# Altium schematic symbol library USB.SchLib: 2 symbols
Pins are listed as number, name and electrical type; pins without a type are passive.

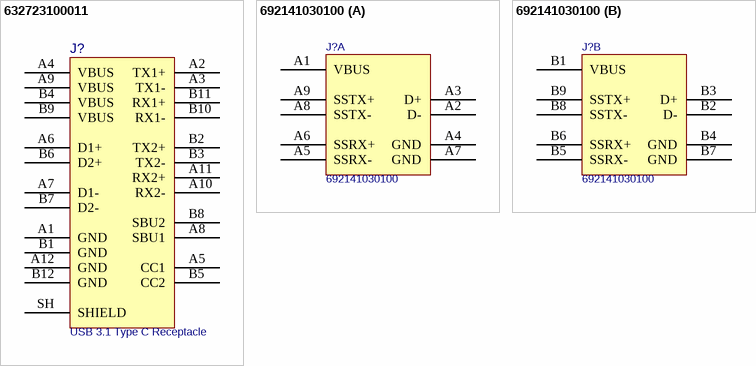
[diagram p0: symbols 632723100011 to 692141030100]

## 632723100011
designator J?, comment USB 3.1 Type C Receptacle
USB 3.1 Type C, Receptacle, Horizontal, THR; Manufacturer: Wurth Elektronik; Manufacturer Part Number: 632723100011; Rated Current: 5A; Pin Number: 24; Interface Type: Type C; Working Voltage: 20VAC; ComponentLink1Description: Manufacturer; ComponentLink1URL: http://www.we-online.de; ComponentLink2Description: Datasheet; ComponentLink2URL: https://katalog.we-online.com/em/datasheet/632723100011.pdf; Published Date: August 2020; Gender: Receptacle; Type: Horizontal; Packaging: Tape and Reel; Operating Temperature: -40 to +105degC; Mounting Technology: THR; Application: USB 3.1
footprint WURTH 632723100011
pins: A1 GND, A2 TX1+, A3 TX1-, A4 VBUS, A5 CC1, A6 D1+, A7 D1-, A8 SBU1, A9 VBUS, A10 RX2-, A11 RX2+, A12 GND, B1 GND, B2 TX2+, B3 TX2-, B4 VBUS, B5 CC2, B6 D2+, B7 D2-, B8 SBU2, B9 VBUS, B10 RX1-, B11 RX1+, B12 GND, SH SHIELD

## 692141030100
designator J?
WR-COM USB 3.0 Stacked
footprint WURTH 692141030100
part A pins: A1 VBUS, A2 D-, A3 D+, A4 GND, A5 SSRX-, A6 SSRX+, A7 GND, A8 SSTX-, A9 SSTX+
part B pins: B1 VBUS, B2 D-, B3 D+, B4 GND, B5 SSRX-, B6 SSRX+, B7 GND, B8 SSTX-, B9 SSTX+